# Altium footprint library Smart 4S and 5S switchable BMS [BQ769200].PcbLib: 27 footprints (part 1 of 2)
Each footprint in its own frame and in the unit in brackets; x right, y up, seen from the top. Pads: shape width x height; smd on the part's side, far side on the other; paste and mask are expansions set on the pad; w line width, h text height; cw(c..) or ccw(c..) is an arc to the next point about the centre after c.
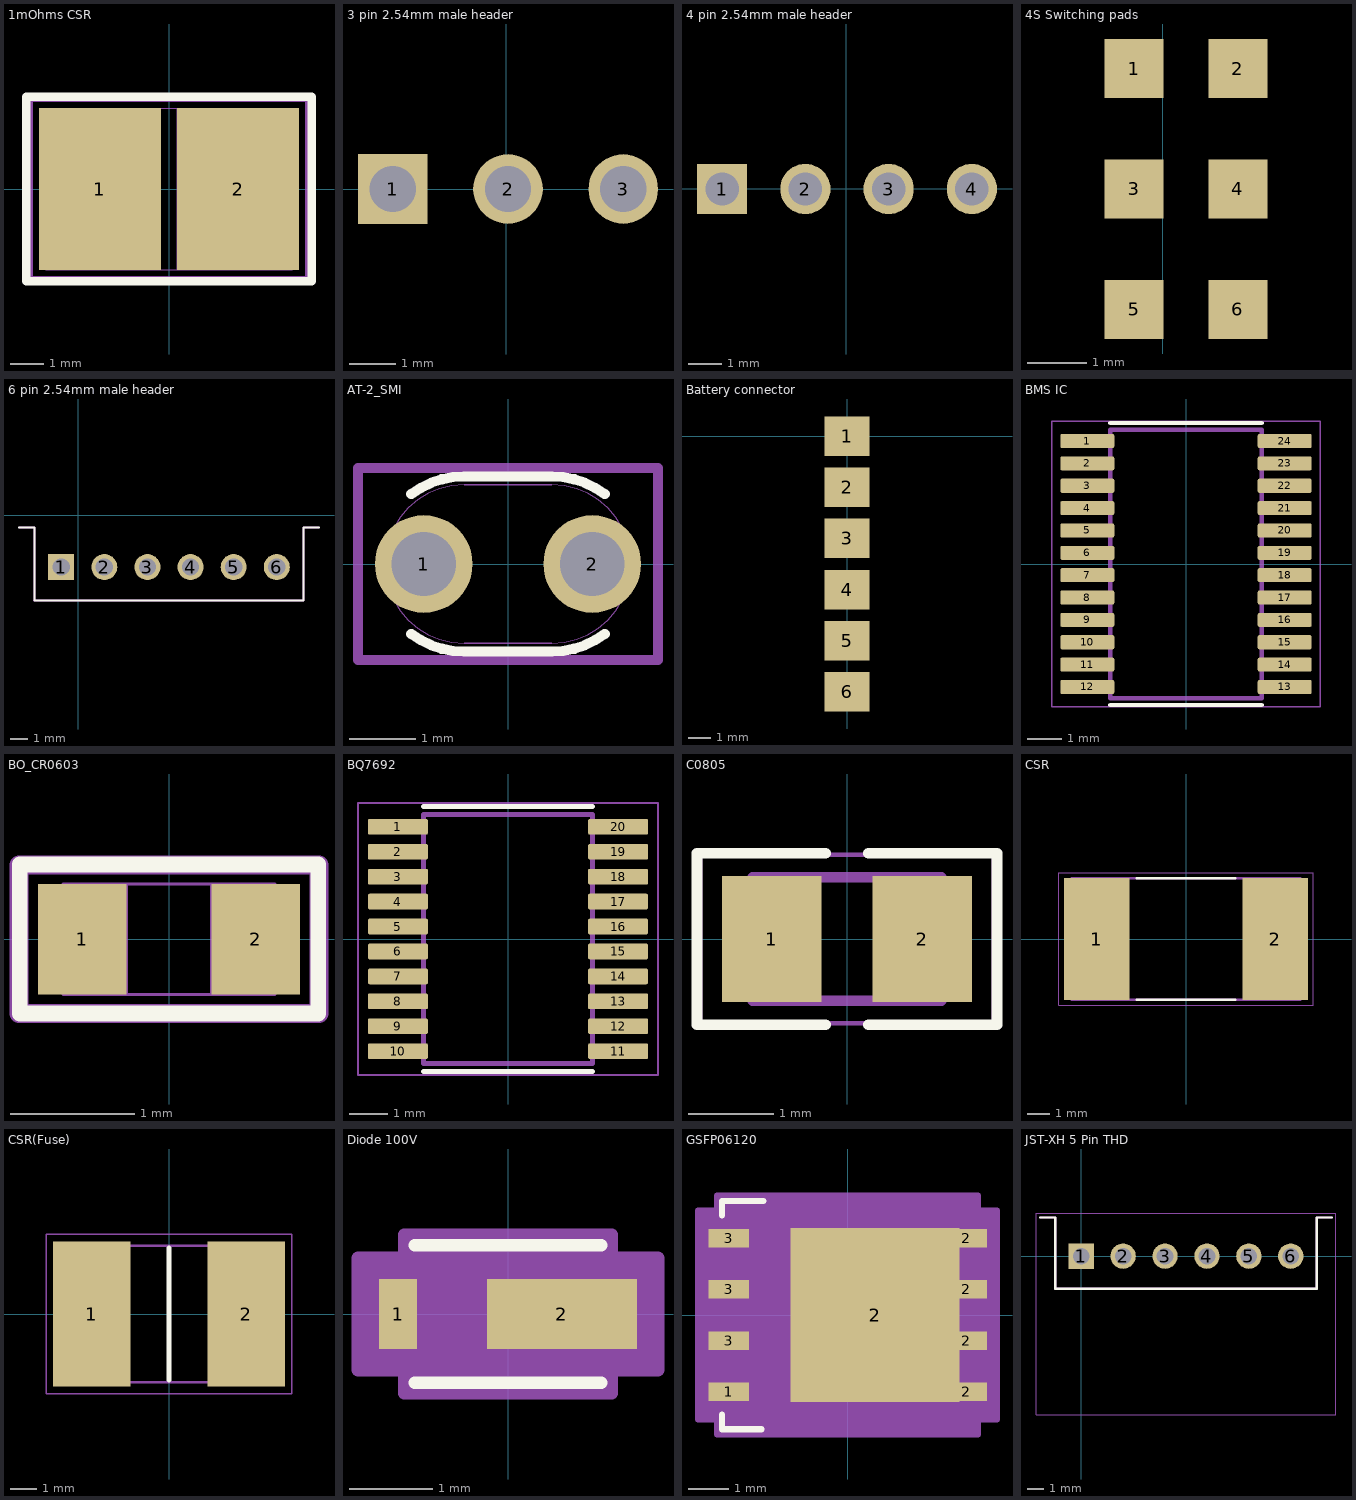
[diagram p0: the footprints below, top view; thin cyan lines are the x and y axes]

## 1mOhms CSR [mil]
pads (2):
  rect 143x190 smd paste+0 mask+0: 1(-81,0) 2(81,0)
Top Overlay:
  lines w10: -167.32,-108.27 167.32,-108.27 167.32,108.27 -167.32,108.27 -167.32,-108.27
Mechanical 13:
  lines w1: -144.5,-95 -144.5,95 ; -144.5,-95 144.5,-95 ; -144.5,-95 -9.5,-95 -9.5,95 -144.5,95 ; -144.5,-95 -144.5,95 ; -144.5,95 144.5,95 ; 144.5,-95 144.5,95 ; 144.5,-95 144.5,95 ; 144.5,-95 9.5,-95 9.5,95 144.5,95
Mechanical 15:
  lines w6: -162.5,-105 162.5,-105 162.5,105 -162.5,105 -162.5,-105
3D body "RES_1L000FEA_VIS.step": height 69.02, standoff 0, extent -144.49,-95 144.49,95

## 3 pin 2.54mm male header [mm]
pads (3):
  rect 1.508x1.508 / inner round 1.508 / far side rect 1.508x1.508 hole 1: 1(-2.46,0)
  round 1.508 hole 1: 2(0.04,0) 3(2.54,0)
3D body "1x3 TH Vert 100mil.step": height 8.38, standoff -3.3, extent -3.73,-1.27 3.89,1.27

## 4 pin 2.54mm male header [mm]
pads (4):
  rect 1.508x1.508 / inner round 1.508 / far side rect 1.508x1.508 hole 1: 1(-3.73,-0.015)
  round 1.508 hole 1: 2(-1.23,-0.015) 3(1.27,-0.015) 4(3.77,-0.015)
3D body "1x4 TH Vert 100mil.step": height 8.38, standoff -3.3, extent -5,-1.285 5.16,1.255

## 4S Switching pads [mm]
pads (6):
  rect 1x1 smd: 1(-0.483,5.334) 2(1.27,5.334) 3(-0.483,3.302) 4(1.27,3.302) 5(-0.483,1.27) 6(1.27,1.27)

## 6 pin 2.54mm male header [mm]
pads (6):
  rect 1.508x1.508 / inner round 1.508 / far side rect 1.508x1.508 hole 1: 1(-1,-3)
  round 1.508 hole 1: 2(1.5,-3) 3(4,-3) 4(6.5,-3) 5(9,-3) 6(11.5,-3)
Top Overlay:
  lines w0.127: -3.45,-0.7 -2.55,-0.7 -2.55,-4.941 ; -2.525,-4.941 0.75,-4.941 7.3,-4.941 10.575,-4.941 ; 9.8,-4.941 13.05,-4.941 13.05,-0.7 13.95,-0.7
Mechanical 13:
  lines w0.127: -3.45,-0.7 -2.55,-0.7 -2.55,-4.941 ; -2.575,-4.946 0.7,-4.946 7.25,-4.946 10.525,-4.946 ; 9.75,-4.946 13.025,-4.946 ; 13.05,-4.941 13.05,-0.7 13.95,-0.7
3D body "1x6 TH Vert 100mil.step": height 8.38, standoff -3.3, extent -2.27,-4.27 12.97,-1.73

## AT-2_SMI [mil]
pads (2):
  round 58 / inner round 60 / far side round 58 hole 38 paste-99999 mask+0: 1(-50,0) 2(50,0)
Top Overlay:
  lines w6: -57.41,-41.44 ccw(c-26,0) -26,-52 26,-52 ccw(c26,0) 57.41,-41.44 ; -57.41,41.44 cw(c-26,0) -26,52 26,52 cw(c26,0) 57.41,41.44
Mechanical 13:
  lines w0: -26,-47 cw(c-26,0) -26,47 ; 26,-47 ccw(c26,0) 26,47
  lines w1: -26,-47 26,-47 ; -26,47 26,47
Mechanical 15:
  lines w6: -89,-57 -89,57 89,57 89,-57 -89,-57
3D body "AT-2_SMI.step": height 339.02, standoff -182.56, extent -72.99,-49.02 72.99,45

## Battery connector [mm]
pads (6):
  rect 2x1.77 smd: 1(0,0) 2(0,-2.286) 3(0,-4.572) 4(0,-6.858) 5(0,-9.144) 6(0,-11.43)

## BMS IC [mm]
pads (24):
  rrect25% 1.57x0.41 smd mask+0.068: 1(-2.87,3.575) 2(-2.87,2.925) 3(-2.87,2.275) 4(-2.87,1.625) 5(-2.87,0.975) 6(-2.87,0.325) 7(-2.87,-0.325) 8(-2.87,-0.975) 9(-2.87,-1.625) 10(-2.87,-2.275) 11(-2.87,-2.925) 12(-2.87,-3.575) 13(2.87,-3.575) 14(2.87,-2.925) 15(2.87,-2.275) 16(2.87,-1.625) 17(2.87,-0.975) 18(2.87,-0.325) 19(2.87,0.325) 20(2.87,0.975) 21(2.87,1.625) 22(2.87,2.275) 23(2.87,2.925) 24(2.87,3.575)
Top Overlay:
  lines w0.127: -2.2,-4.1 2.2,-4.1 ; -2.2,4.1 2.2,4.1
Mechanical 13:
  lines w0.127: -2.2,-3.9 -2.2,3.9 2.2,3.9 2.2,-3.9 -2.2,-3.9
Mechanical 15:
  lines w0.05: -3.905,-4.15 -3.905,4.15 3.905,4.15 3.905,-4.15 -3.905,-4.15
3D body "BQ7791502PW.step": height 1.2, standoff 0, extent -3.2,-3.9 3.2,3.9

## BO_CR0603 [mil]
pads (2):
  rect 28x35 smd paste+0 mask+0: 1(-27.5,0) 2(27.5,0)
Top Overlay:
  lines w5: -47.24,-23.5 47.24,-23.5 47.24,23.62 -47.24,23.62 -47.24,-23.5
Mechanical 13:
  lines w1: -33.5,-17.5 -33.5,17.5 ; -33.5,-17.5 33.5,-17.5 ; -33.5,-17.5 -13.5,-17.5 -13.5,17.5 -33.5,17.5 ; -33.5,-17.5 -33.5,17.5 ; -33.5,17.5 33.5,17.5 ; 33.5,-17.5 33.5,17.5 ; 33.5,-17.5 33.5,17.5 ; 33.5,-17.5 13.5,-17.5 13.5,17.5 33.5,17.5
Mechanical 15:
  lines w6: -47.5,-23.5 47.5,-23.5 47.5,23.5 -47.5,23.5 -47.5,-23.5
3D body "BO_CR0603.step": height 22.01, standoff 0, extent -33.5,-17.48 33.5,17.48

## BQ7692 [mm]
pads (20):
  rrect25% 1.57x0.41 smd mask+0.03: 1(-2.87,2.925) 2(-2.87,2.275) 3(-2.87,1.625) 4(-2.87,0.975) 5(-2.87,0.325) 6(-2.87,-0.325) 7(-2.87,-0.975) 8(-2.87,-1.625) 9(-2.87,-2.275) 10(-2.87,-2.925) 11(2.87,-2.925) 12(2.87,-2.275) 13(2.87,-1.625) 14(2.87,-0.975) 15(2.87,-0.325) 16(2.87,0.325) 17(2.87,0.975) 18(2.87,1.625) 19(2.87,2.275) 20(2.87,2.925)
Top Overlay:
  lines w0.127: -2.2,-3.45 2.2,-3.45 ; -2.2,3.45 2.2,3.45
Mechanical 13:
  lines w0.127: -2.2,-3.25 2.2,-3.25 2.2,3.25 -2.2,3.25 -2.2,-3.25
Mechanical 15:
  lines w0.05: -3.91,-3.55 3.91,-3.55 3.91,3.55 -3.91,3.55 -3.91,-3.55
3D body "step_temp.STEP": height 1.2, standoff 0, extent -3.2,-3.25 3.2,3.25

## C0805 [mm]
pads (2):
  rect 1.16x1.47 smd: 1(-0.88,0) 2(0.88,0)
Top Overlay:
  lines w0.127: -0.25,-1 -1.75,-1 -1.75,1 -0.25,1 ; 0.25,-1 1.75,-1 1.75,1 0.25,1
Mechanical 13:
  lines w0.127: -1.1,-0.72 -1.1,0.72 1.1,0.72 1.1,-0.72 -1.1,-0.72
Mechanical 15:
  lines w0.05: -1.713,-0.983 1.713,-0.983 1.713,0.983 -1.713,0.983 -1.713,-0.983
3D body "step_temp.STEP": height 0.94, standoff 0, extent -1.005,-0.625 1.005,0.625

## CSR [mm]
pads (2):
  rect 2.96x5.51 smd: 1(-4.027,0) 2(4.027,0)
Top Overlay:
  lines w0.127: -2.23,-2.75 2.23,-2.75 ; -2.23,2.75 2.23,2.75
Mechanical 13:
  lines w0.127: -5.15,-2.75 5.15,-2.75 5.15,2.75 -5.15,2.75 -5.15,-2.75
Mechanical 15:
  lines w0.05: -5.755,-3.005 5.755,-3.005 5.755,3.005 -5.755,3.005 -5.755,-3.005
3D body "step_temp.STEP": height 1.05, standoff 0, extent -5,-2.6 5,2.6

## CSR(Fuse) [mm]
pads (2):
  rect 2.9x5.45 smd: 1(-2.9,0) 2(2.9,0)
Top Overlay:
  lines w0.2: 0,-2.46 0,2.46
Mechanical 13:
  lines w0.05: -4.6,-3 -4.6,3 4.6,3 4.6,-3 -4.6,-3
  lines w0.1: -3.678,-2.56 -3.678,2.56 3.678,2.56 3.678,-2.56 -3.678,-2.56

## Diode 100V [mil]
pads (2):
  rect 18x33 smd paste+0 mask+0: 1(-52,0)
  rect 71x33 smd paste+0 mask+0: 2(25.5,0)
Top Overlay:
  lines w6: -44,-32.5 44,-32.5 ; -44,32.5 44,32.5
Mechanical 13:
  lines w1: -39,-13.75 -25.25,-27.5 ; -39,13.75 -25.25,27.5 ; -53,-16.5 -39,-16.5 -39,16.5 -53,16.5 -53,-16.5 ; -39,-27.5 -39,27.5 39,27.5 39,-27.5 -39,-27.5 ; 39,-16.5 53,-16.5 53,16.5 39,16.5 39,-16.5
  text "*" at -41.5,-25 h50
Mechanical 15:
  region: -49,-26.5 -71,-26.5 -71,26.5 -49,26.5 -49,37.5 49,37.5 49,26.5 71,26.5 71,-26.5 49,-26.5 49,-37.5 -49,-37.5
  lines w6: -71,-26.5 -49,-26.5 -49,-37.5 49,-37.5 49,-26.5 71,-26.5 71,26.5 49,26.5 49,37.5 -49,37.5 -49,26.5 -71,26.5 -71,-26.5
3D body "DIO_RBE1VAM_ROM.step": height 32.09, standoff 0, extent -52.99,-27.48 52.99,27.48

## GSFP06120 [mil]
pads (9):
  rect 40x18 smd paste+0 mask+0: 1(-116,-75) 2(116,-75) 2(116,-25) 2(116,25) 2(116,75) 3(-116,-25) 3(-116,25) 3(-116,75)
  rect 165x170 smd mask+0: 2(27,0)
Top Overlay:
  lines w6: -122.5,-97.1 -122.5,-111.5 -84,-111.5 ; -122.5,97.1 -122.5,111.5 -82,111.5
Top Paste:
  region: 109,-85 109,85 -56,85 -56,-85
Top Solder:
  region: 109,-85 109,85 -56,85 -56,-85
Mechanical 13:
  circle w0: c-96,75 r3
  lines w0: -12,106.5 ccw(c0,106.5) 12,106.5
  lines w1: -117.5,-106.5 117.5,-106.5 117.5,106.5 -117.5,106.5 -117.5,-106.5
Mechanical 15:
  region: -128.5,-102 -147,-102 -147,102 -128.5,102 -128.5,116.5 126.5,116.5 126.5,102 145,102 145,-102 126.5,-102 126.5,-116.5 -128.5,-116.5
  lines w6: -146,-102 -146,102 -127.5,102 -127.5,116.5 127.5,116.5 127.5,102 146,102 146,-102 127.5,-102 127.5,-116.5 -127.5,-116.5 -127.5,-102 -146,-102
3D body "PPAK5X6-8L_GAS.step": height 47.09, standoff 0, extent -124.02,-106.5 124.02,106.5

## JST-XH 5 Pin THD [mm]
height 6.1
pads (6):
  rect 1.508x1.508 / inner round 1.508 / far side rect 1.508x1.508 hole 1: 1(0,0)
  round 1.508 hole 1: 2(2.5,0) 3(5,0) 4(7.5,0) 5(10,0) 6(12.5,0)
Top Overlay:
  lines w0.127: -2.45,2.3 -1.55,2.3 -1.55,-1.941 ; -1.525,-1.941 1.75,-1.941 8.3,-1.941 11.575,-1.941 ; 10.8,-1.941 14.05,-1.941 14.05,2.3 14.95,2.3
Mechanical 13:
  lines w0.127: -2.45,2.3 -1.55,2.3 -1.55,-1.941 ; -1.575,-1.946 1.7,-1.946 8.25,-1.946 11.525,-1.946 ; 10.75,-1.946 14.025,-1.946 ; 14.05,-1.941 14.05,2.3 14.95,2.3
Mechanical 15:
  lines w0.05: -2.7,-9.45 15.2,-9.45 15.2,-6.45 15.2,-0.45 15.2,2.55 -2.7,2.55 -2.7,-9.45
3D body "step_temp.STEP": height 6.1, standoff -3.4, extent 0.15,-9.1 15.05,2.4